# Altium integrated library National Semiconductor Audio.IntLib: 683 symbols (part 2 of 18)
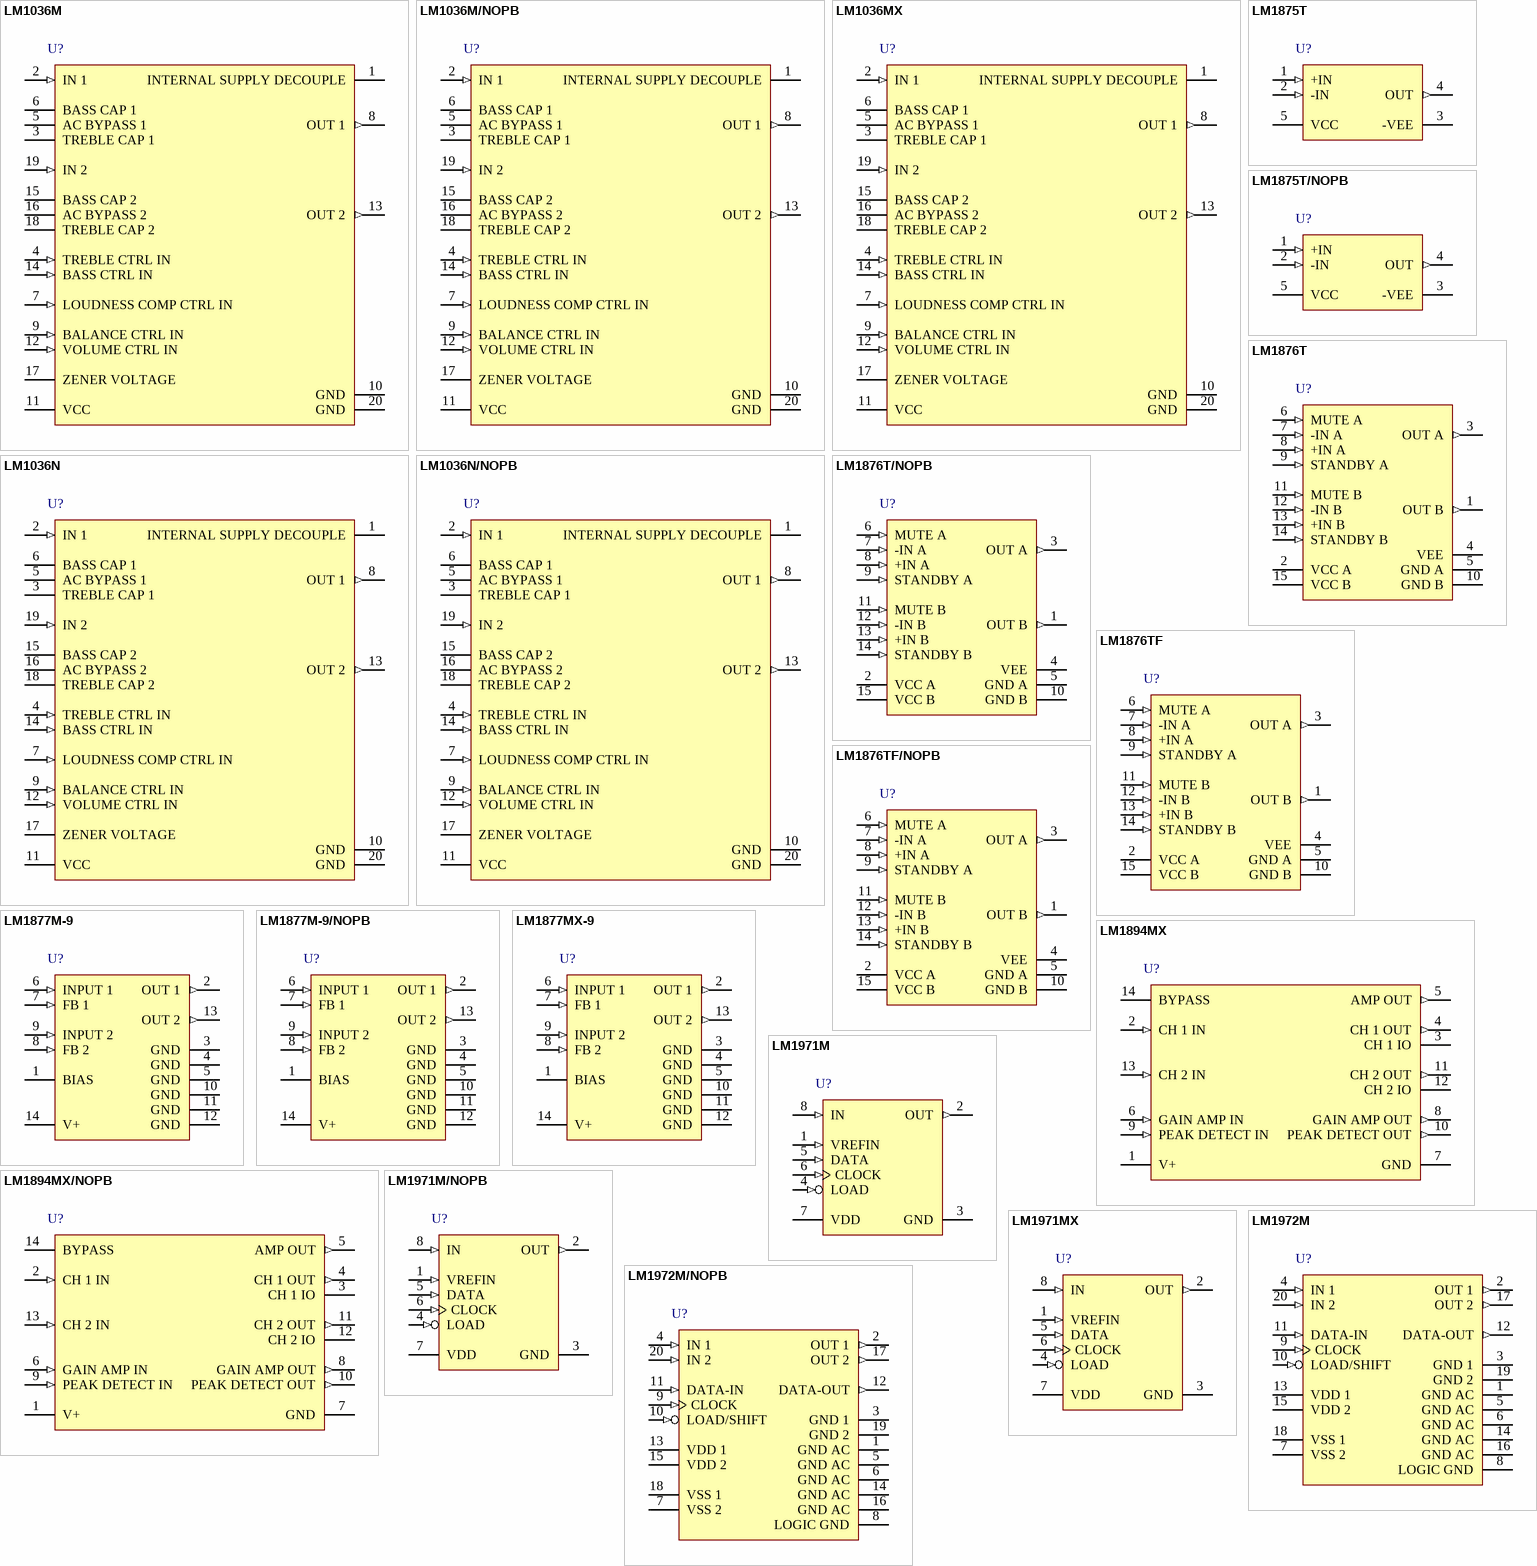
[diagram p28: symbols LM1036M to LM1972M/NOPB]

## LM1876TF/NOPB
designator U?
Overture Audio Power Amplifier Series Dual 20-Watt Audio Power Amplifier with Mute and Standby Modes, 15-pin Isolated TO220, Pb-Free; PartNumber: LM1876TF/NOPB; Manufacturer: National Semiconductor; PackageTopMarking: NSUZXYTTE#*LM1876TF; PowerWise: N; CompType: Audio IC; High-Reliability: Y; DatasheetVersion: Jul-2003; PackageVersion: revB, Feb-1994; PackageReference: TF15B; PackageDescription: TO-220, Molded, 15 Lead, Staggered, Isolated; RoHS: Y; PinCount: 15; ComponentLink1Description: Manufacturer URL; ComponentLink1URL: http://www.national.com/; ComponentLink2Description: LM1876 Datasheet; ComponentLink2URL: http://www.national.com/ds/LM/LM1876.pdf; ComponentLink3Description: LM1876 Web Page; ComponentLink3URL: http://www.national.com/pf/LM/LM1876.html; ComponentLink4Description: TF15B Package Page; ComponentLink4URL: http://www.national.com/packaging/folders/tf15b.html
footprint TF15B (TO, Thru-Hole, Vertical, Heatsink Mounted; 15 Bent Staggered Leads; Body 20x10.6x4.5mm, Pitch 1.27 mm)
pins: 1 OUT B (out), 2 VCC A (power), 3 OUT A (out), 4 VEE (power), 5 GND A (power), 6 MUTE A (in), 7 -IN A (in), 8 +IN A (in), 9 STANDBY A (in), 10 GND B (power), 11 MUTE B (in), 12 -IN B (in), 13 +IN B (in), 14 STANDBY B (in), 15 VCC B (power)

## LM1877M-9
designator U?
Dual Audio Power Amplifier, 14-pin Wide SOIC; PartNumber: LM1877M-9; Manufacturer: National Semiconductor; PackageTopMarking: NSUZXYTTE#*LM1877M*-9; PowerWise: N; CompType: Audio IC; High-Reliability: Y; DatasheetVersion: Feb-1995; PackageVersion: revD, Feb-1987; PackageReference: M14B; PackageDescription: Molded Package, S.O., .300in Wide, 14 Lead; RoHS: N; PinCount: 14; Code_JEDEC: MS-013-AF; Code_IPC: SOIC127P1030-14; ComponentLink1Description: Manufacturer URL; ComponentLink1URL: http://www.national.com/; ComponentLink2Description: LM1877 Datasheet; ComponentLink2URL: http://www.national.com/ds/LM/LM1877.pdf; ComponentLink3Description: LM1877 Web Page; ComponentLink3URL: http://www.national.com/pf/LM/LM1877.html; ComponentLink4Description: M14B Package Page; ComponentLink4URL: http://www.national.com/packaging/folders/m14b.html
footprint M14B_N (SOIC, 14-Leads, Body 9x7.5mm, Pitch 1.27mm, IPC Medium Density)
footprint M14B_L (SOIC, 14-Leads, Body 9x7.5mm, Pitch 1.27mm, IPC High Density)
footprint M14B_M (SOIC, 14-Leads, Body 9x7.5mm, Pitch 1.27mm, IPC Low Density)
pins: 1 BIAS, 2 OUT 1 (out), 3 GND (power), 4 GND (power), 5 GND (power), 6 INPUT 1 (in), 7 FB 1 (in), 8 FB 2 (in), 9 INPUT 2 (in), 10 GND (power), 11 GND (power), 12 GND (power), 13 OUT 2 (out), 14 V+ (power)

## LM1877M-9/NOPB
designator U?
Dual Audio Power Amplifier, 14-pin Wide SOIC, Pb-Free; PartNumber: LM1877M-9/NOPB; Manufacturer: National Semiconductor; PackageTopMarking: NSUZXYTTE#*LM1877M*-9; PowerWise: N; CompType: Audio IC; High-Reliability: Y; DatasheetVersion: Feb-1995; PackageVersion: revD, Feb-1987; PackageReference: M14B; PackageDescription: Molded Package, S.O., .300in Wide, 14 Lead; RoHS: Y; PinCount: 14; Code_JEDEC: MS-013-AF; Code_IPC: SOIC127P1030-14; ComponentLink1Description: Manufacturer URL; ComponentLink1URL: http://www.national.com/; ComponentLink2Description: LM1877 Datasheet; ComponentLink2URL: http://www.national.com/ds/LM/LM1877.pdf; ComponentLink3Description: LM1877 Web Page; ComponentLink3URL: http://www.national.com/pf/LM/LM1877.html; ComponentLink4Description: M14B Package Page; ComponentLink4URL: http://www.national.com/packaging/folders/m14b.html
footprint M14B_N (SOIC, 14-Leads, Body 9x7.5mm, Pitch 1.27mm, IPC Medium Density)
footprint M14B_L (SOIC, 14-Leads, Body 9x7.5mm, Pitch 1.27mm, IPC High Density)
footprint M14B_M (SOIC, 14-Leads, Body 9x7.5mm, Pitch 1.27mm, IPC Low Density)
pins: 1 BIAS, 2 OUT 1 (out), 3 GND (power), 4 GND (power), 5 GND (power), 6 INPUT 1 (in), 7 FB 1 (in), 8 FB 2 (in), 9 INPUT 2 (in), 10 GND (power), 11 GND (power), 12 GND (power), 13 OUT 2 (out), 14 V+ (power)

## LM1877MX-9
designator U?
Dual Audio Power Amplifier, 14-pin Wide SOIC; PartNumber: LM1877MX-9; Manufacturer: National Semiconductor; PackageTopMarking: NSUZXYTTE#*LM1877M*-9; PowerWise: N; CompType: Audio IC; High-Reliability: Y; DatasheetVersion: Feb-1995; PackageVersion: revD, Feb-1987; PackageReference: M14B; PackageDescription: Molded Package, S.O., .300in Wide, 14 Lead; RoHS: N; PinCount: 14; Code_JEDEC: MS-013-AF; Code_IPC: SOIC127P1030-14; ComponentLink1Description: Manufacturer URL; ComponentLink1URL: http://www.national.com/; ComponentLink2Description: LM1877 Datasheet; ComponentLink2URL: http://www.national.com/ds/LM/LM1877.pdf; ComponentLink3Description: LM1877 Web Page; ComponentLink3URL: http://www.national.com/pf/LM/LM1877.html; ComponentLink4Description: M14B Package Page; ComponentLink4URL: http://www.national.com/packaging/folders/m14b.html
footprint M14B_N (SOIC, 14-Leads, Body 9x7.5mm, Pitch 1.27mm, IPC Medium Density)
footprint M14B_L (SOIC, 14-Leads, Body 9x7.5mm, Pitch 1.27mm, IPC High Density)
footprint M14B_M (SOIC, 14-Leads, Body 9x7.5mm, Pitch 1.27mm, IPC Low Density)
pins: 1 BIAS, 2 OUT 1 (out), 3 GND (power), 4 GND (power), 5 GND (power), 6 INPUT 1 (in), 7 FB 1 (in), 8 FB 2 (in), 9 INPUT 2 (in), 10 GND (power), 11 GND (power), 12 GND (power), 13 OUT 2 (out), 14 V+ (power)

## LM1894MX
designator U?
Dynamic Noise Reduction System DNR, 14-pin Narrow SOIC; PartNumber: LM1894MX; Manufacturer: National Semiconductor; PackageTopMarking: NSUZXYTT*LM1894M; PowerWise: N; CompType: Audio IC; High-Reliability: Y; DatasheetVersion: Apr-2002; PackageVersion: revJ, Jan-1996; PackageReference: M14A; PackageDescription: Molded Package S.O., .150in Wide, 14 Lead; RoHS: N; PinCount: 14; Code_JEDEC: MS-012AB; Code_IPC: SOIC127P600-14; ComponentLink1Description: Manufacturer URL; ComponentLink1URL: http://www.national.com/; ComponentLink2Description: LM1894 Datasheet; ComponentLink2URL: http://www.national.com/ds/LM/LM1894.pdf; ComponentLink3Description: LM1894 Web Page; ComponentLink3URL: http://www.national.com/pf/LM/LM1894.html; ComponentLink4Description: M14A Package Page; ComponentLink4URL: http://www.national.com/packaging/folders/m14a.html
footprint M14A_N (SOIC, 14-Leads, Body 8.6x3.9mm, Pitch 1.27mm, IPC Medium Density)
footprint M14A_L (SOIC, 14-Leads, Body 8.6x3.9mm, Pitch 1.27mm, IPC High Density)
footprint M14A_M (SOIC, 14-Leads, Body 8.6x3.9mm, Pitch 1.27mm, IPC Low Density)
pins: 1 V+ (power), 2 CH 1 IN (in), 3 CH 1 IO, 4 CH 1 OUT (out), 5 AMP OUT (out), 6 GAIN AMP IN (in), 7 GND (power), 8 GAIN AMP OUT (out), 9 PEAK DETECT IN (in), 10 PEAK DETECT OUT (out), 11 CH 2 OUT (out), 12 CH 2 IO, 13 CH 2 IN (in), 14 BYPASS

## LM1894MX/NOPB
designator U?
Dynamic Noise Reduction System DNR, 14-pin Narrow SOIC, Pb-Free; PartNumber: LM1894MX/NOPB; Manufacturer: National Semiconductor; PackageTopMarking: NSUZXYTT*LM1894M; PowerWise: N; CompType: Audio IC; High-Reliability: Y; DatasheetVersion: Apr-2002; PackageVersion: revJ, Jan-1996; PackageReference: M14A; PackageDescription: Molded Package S.O., .150in Wide, 14 Lead; RoHS: Y; PinCount: 14; Code_JEDEC: MS-012AB; Code_IPC: SOIC127P600-14; ComponentLink1Description: Manufacturer URL; ComponentLink1URL: http://www.national.com/; ComponentLink2Description: LM1894 Datasheet; ComponentLink2URL: http://www.national.com/ds/LM/LM1894.pdf; ComponentLink3Description: LM1894 Web Page; ComponentLink3URL: http://www.national.com/pf/LM/LM1894.html; ComponentLink4Description: M14A Package Page; ComponentLink4URL: http://www.national.com/packaging/folders/m14a.html
footprint M14A_N (SOIC, 14-Leads, Body 8.6x3.9mm, Pitch 1.27mm, IPC Medium Density)
footprint M14A_L (SOIC, 14-Leads, Body 8.6x3.9mm, Pitch 1.27mm, IPC High Density)
footprint M14A_M (SOIC, 14-Leads, Body 8.6x3.9mm, Pitch 1.27mm, IPC Low Density)
pins: 1 V+ (power), 2 CH 1 IN (in), 3 CH 1 IO, 4 CH 1 OUT (out), 5 AMP OUT (out), 6 GAIN AMP IN (in), 7 GND (power), 8 GAIN AMP OUT (out), 9 PEAK DETECT IN (in), 10 PEAK DETECT OUT (out), 11 CH 2 OUT (out), 12 CH 2 IO, 13 CH 2 IN (in), 14 BYPASS

## LM1971M
designator U?
Digitally Controlled 62 dB Audio Attenuator with/Mute, 8-pin Narrow SOIC; PartNumber: LM1971M; Manufacturer: National Semiconductor; PackageTopMarking: NSZXTT*LM19*71M; PowerWise: N; CompType: Audio IC; High-Reliability: Y; DatasheetVersion: Sep-2002; PackageVersion: revM, May-2009; PackageReference: M08A; PackageDescription: SOIC Narrow, 4.9 x 3.9 x 1.45mm, 8 Lead, 1.27mm Pitch; RoHS: N; PinCount: 8; Code_JEDEC: MS-012-AA; Code_IPC: SOIC127P600-8; ComponentLink1Description: Manufacturer URL; ComponentLink1URL: http://www.national.com/; ComponentLink2Description: LM1971 Datasheet; ComponentLink2URL: http://www.national.com/ds/LM/LM1971.pdf; ComponentLink3Description: LM1971 Web Page; ComponentLink3URL: http://www.national.com/pf/LM/LM1971.html; ComponentLink4Description: M08A Package Page; ComponentLink4URL: http://www.national.com/packaging/folders/m08a.html
footprint M08A_N (SOIC, 8-Leads, Body 4.9x3.9mm, Pitch 1.27mm, IPC Medium Density)
footprint M08A_L (SOIC, 8-Leads, Body 4.9x3.9mm, Pitch 1.27mm, IPC High Density)
footprint M08A_M (SOIC, 8-Leads, Body 4.9x3.9mm, Pitch 1.27mm, IPC Low Density)
pins: 1 VREFIN (in), 2 OUT (out), 3 GND (power), 4 LOAD (in), 5 DATA (in), 6 CLOCK (in), 7 VDD (power), 8 IN (in)

## LM1971M/NOPB
designator U?
Digitally Controlled 62 dB Audio Attenuator with/Mute, 8-pin Narrow SOIC, Pb-Free; PartNumber: LM1971M/NOPB; Manufacturer: National Semiconductor; PackageTopMarking: NSZXTT*LM19*71M; PowerWise: N; CompType: Audio IC; High-Reliability: Y; DatasheetVersion: Sep-2002; PackageVersion: revM, May-2009; PackageReference: M08A; PackageDescription: SOIC Narrow, 4.9 x 3.9 x 1.45mm, 8 Lead, 1.27mm Pitch; RoHS: Y; PinCount: 8; Code_JEDEC: MS-012-AA; Code_IPC: SOIC127P600-8; ComponentLink1Description: Manufacturer URL; ComponentLink1URL: http://www.national.com/; ComponentLink2Description: LM1971 Datasheet; ComponentLink2URL: http://www.national.com/ds/LM/LM1971.pdf; ComponentLink3Description: LM1971 Web Page; ComponentLink3URL: http://www.national.com/pf/LM/LM1971.html; ComponentLink4Description: M08A Package Page; ComponentLink4URL: http://www.national.com/packaging/folders/m08a.html
footprint M08A_N (SOIC, 8-Leads, Body 4.9x3.9mm, Pitch 1.27mm, IPC Medium Density)
footprint M08A_L (SOIC, 8-Leads, Body 4.9x3.9mm, Pitch 1.27mm, IPC High Density)
footprint M08A_M (SOIC, 8-Leads, Body 4.9x3.9mm, Pitch 1.27mm, IPC Low Density)
pins: 1 VREFIN (in), 2 OUT (out), 3 GND (power), 4 LOAD (in), 5 DATA (in), 6 CLOCK (in), 7 VDD (power), 8 IN (in)

## LM1971MX
designator U?
Digitally Controlled 62 dB Audio Attenuator with/Mute, 8-pin Narrow SOIC; PartNumber: LM1971MX; Manufacturer: National Semiconductor; PackageTopMarking: NSZXTT*LM19*71M; PowerWise: N; CompType: Audio IC; High-Reliability: Y; DatasheetVersion: Sep-2002; PackageVersion: revM, May-2009; PackageReference: M08A; PackageDescription: SOIC Narrow, 4.9 x 3.9 x 1.45mm, 8 Lead, 1.27mm Pitch; RoHS: N; PinCount: 8; Code_JEDEC: MS-012-AA; Code_IPC: SOIC127P600-8; ComponentLink1Description: Manufacturer URL; ComponentLink1URL: http://www.national.com/; ComponentLink2Description: LM1971 Datasheet; ComponentLink2URL: http://www.national.com/ds/LM/LM1971.pdf; ComponentLink3Description: LM1971 Web Page; ComponentLink3URL: http://www.national.com/pf/LM/LM1971.html; ComponentLink4Description: M08A Package Page; ComponentLink4URL: http://www.national.com/packaging/folders/m08a.html
footprint M08A_N (SOIC, 8-Leads, Body 4.9x3.9mm, Pitch 1.27mm, IPC Medium Density)
footprint M08A_L (SOIC, 8-Leads, Body 4.9x3.9mm, Pitch 1.27mm, IPC High Density)
footprint M08A_M (SOIC, 8-Leads, Body 4.9x3.9mm, Pitch 1.27mm, IPC Low Density)
pins: 1 VREFIN (in), 2 OUT (out), 3 GND (power), 4 LOAD (in), 5 DATA (in), 6 CLOCK (in), 7 VDD (power), 8 IN (in)

## LM1972M
designator U?
Micro-Pot 2-Channel 78 dB Audio Attenuator with Mute, 20-pin Wide SOIC; PartNumber: LM1972M; Manufacturer: National Semiconductor; PackageTopMarking: NSUZXYTTE#*LM1972M; PowerWise: N; CompType: Audio IC; High-Reliability: Y; DatasheetVersion: Nov-2006; PackageVersion: revG, Jan-1996; PackageReference: M20B; PackageDescription: Molded Package, S0, .300in Wide, 20 Lead; RoHS: N; PinCount: 20; Code_JEDEC: MS-013-AC; Code_IPC: SOIC127P1030-20; ComponentLink1Description: Manufacturer URL; ComponentLink1URL: http://www.national.com/; ComponentLink2Description: LM1972 Datasheet; ComponentLink2URL: http://www.national.com/ds/LM/LM1972.pdf; ComponentLink3Description: LM1972 Web Page; ComponentLink3URL: http://www.national.com/pf/LM/LM1972.html; ComponentLink4Description: M20B Package Page; ComponentLink4URL: http://www.national.com/packaging/folders/m20b.html
footprint M20B_N (SOIC, 20-Leads, Body 12.8x7.5mm, Pitch 1.27mm, IPC Medium Density)
footprint M20B_L (SOIC, 20-Leads, Body 12.8x7.5mm, Pitch 1.27mm, IPC High Density)
footprint M20B_M (SOIC, 20-Leads, Body 12.8x7.5mm, Pitch 1.27mm, IPC Low Density)
pins: 1 GND AC (power), 2 OUT 1 (out), 3 GND 1 (power), 4 IN 1 (in), 5 GND AC (power), 6 GND AC (power), 7 VSS 2 (power), 8 LOGIC GND (power), 9 CLOCK (in), 10 LOAD/SHIFT (in), 11 DATA-IN (in), 12 DATA-OUT (out), 13 VDD 1 (power), 14 GND AC (power), 15 VDD 2 (power), 16 GND AC (power), 17 OUT 2 (out), 18 VSS 1 (power), 19 GND 2 (power), 20 IN 2 (in)

## LM1972M/NOPB
designator U?
Micro-Pot 2-Channel 78 dB Audio Attenuator with Mute, 20-pin Wide SOIC, Pb-Free; PartNumber: LM1972M/NOPB; Manufacturer: National Semiconductor; PackageTopMarking: NSUZXYTTE#*LM1972M; PowerWise: N; CompType: Audio IC; High-Reliability: Y; DatasheetVersion: Nov-2006; PackageVersion: revG, Jan-1996; PackageReference: M20B; PackageDescription: Molded Package, S0, .300in Wide, 20 Lead; RoHS: Y; PinCount: 20; Code_JEDEC: MS-013-AC; Code_IPC: SOIC127P1030-20; ComponentLink1Description: Manufacturer URL; ComponentLink1URL: http://www.national.com/; ComponentLink2Description: LM1972 Datasheet; ComponentLink2URL: http://www.national.com/ds/LM/LM1972.pdf; ComponentLink3Description: LM1972 Web Page; ComponentLink3URL: http://www.national.com/pf/LM/LM1972.html; ComponentLink4Description: M20B Package Page; ComponentLink4URL: http://www.national.com/packaging/folders/m20b.html
footprint M20B_N (SOIC, 20-Leads, Body 12.8x7.5mm, Pitch 1.27mm, IPC Medium Density)
footprint M20B_L (SOIC, 20-Leads, Body 12.8x7.5mm, Pitch 1.27mm, IPC High Density)
footprint M20B_M (SOIC, 20-Leads, Body 12.8x7.5mm, Pitch 1.27mm, IPC Low Density)
pins: 1 GND AC (power), 2 OUT 1 (out), 3 GND 1 (power), 4 IN 1 (in), 5 GND AC (power), 6 GND AC (power), 7 VSS 2 (power), 8 LOGIC GND (power), 9 CLOCK (in), 10 LOAD/SHIFT (in), 11 DATA-IN (in), 12 DATA-OUT (out), 13 VDD 1 (power), 14 GND AC (power), 15 VDD 2 (power), 16 GND AC (power), 17 OUT 2 (out), 18 VSS 1 (power), 19 GND 2 (power), 20 IN 2 (in)

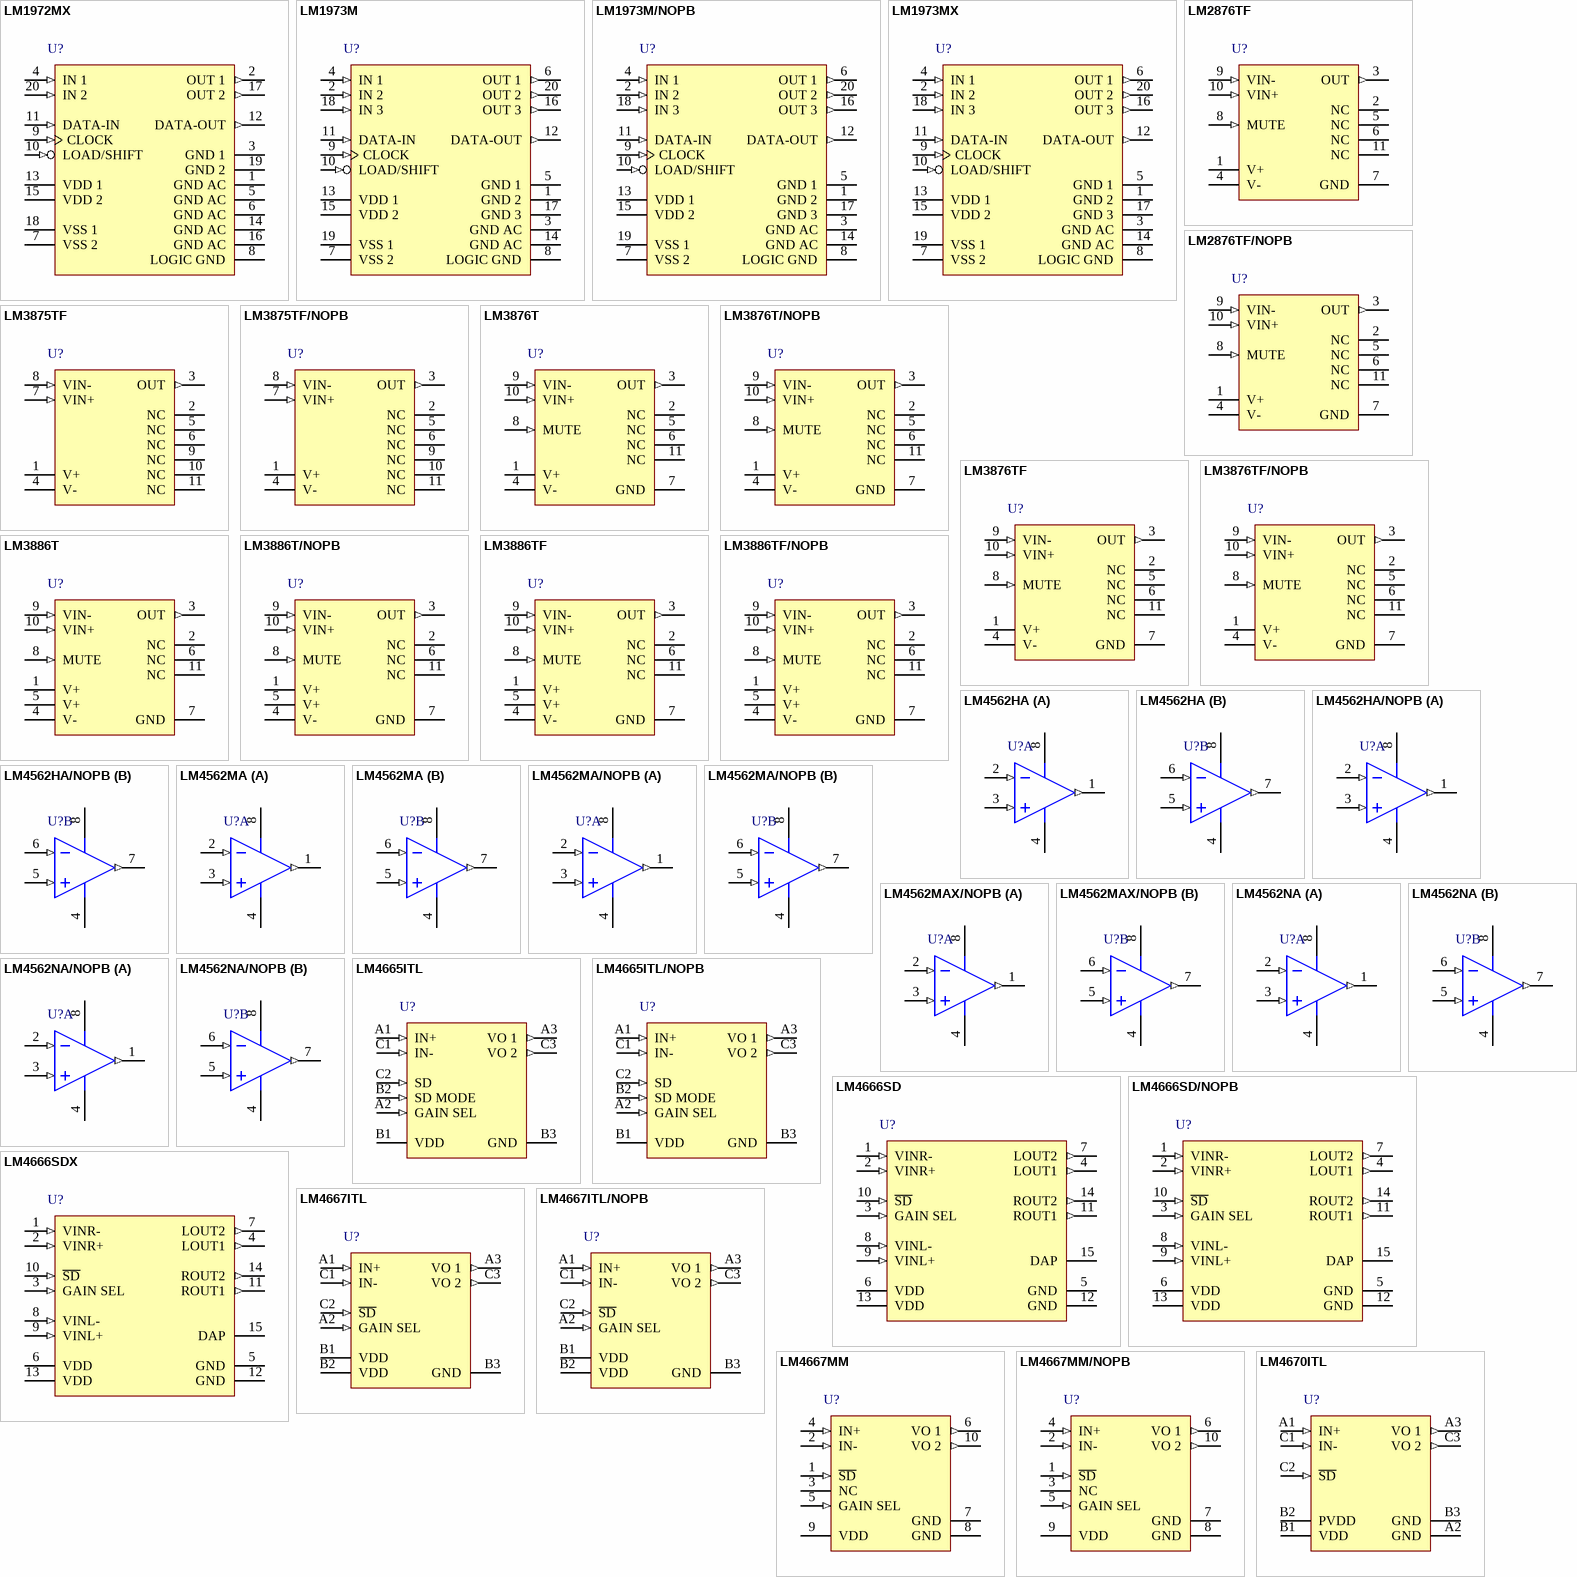
[diagram p2: symbols LM1972MX to LM4670ITL]

## LM1972MX
designator U?
Micro-Pot 2-Channel 78 dB Audio Attenuator with Mute, 20-pin Wide SOIC; PartNumber: LM1972MX; Manufacturer: National Semiconductor; PackageTopMarking: NSUZXYTTE#*LM1972M; PowerWise: N; CompType: Audio IC; High-Reliability: Y; DatasheetVersion: Nov-2006; PackageVersion: revG, Jan-1996; PackageReference: M20B; PackageDescription: Molded Package, S0, .300in Wide, 20 Lead; RoHS: N; PinCount: 20; Code_JEDEC: MS-013-AC; Code_IPC: SOIC127P1030-20; ComponentLink1Description: Manufacturer URL; ComponentLink1URL: http://www.national.com/; ComponentLink2Description: LM1972 Datasheet; ComponentLink2URL: http://www.national.com/ds/LM/LM1972.pdf; ComponentLink3Description: LM1972 Web Page; ComponentLink3URL: http://www.national.com/pf/LM/LM1972.html; ComponentLink4Description: M20B Package Page; ComponentLink4URL: http://www.national.com/packaging/folders/m20b.html
footprint M20B_N (SOIC, 20-Leads, Body 12.8x7.5mm, Pitch 1.27mm, IPC Medium Density)
footprint M20B_L (SOIC, 20-Leads, Body 12.8x7.5mm, Pitch 1.27mm, IPC High Density)
footprint M20B_M (SOIC, 20-Leads, Body 12.8x7.5mm, Pitch 1.27mm, IPC Low Density)
pins: 1 GND AC (power), 2 OUT 1 (out), 3 GND 1 (power), 4 IN 1 (in), 5 GND AC (power), 6 GND AC (power), 7 VSS 2 (power), 8 LOGIC GND (power), 9 CLOCK (in), 10 LOAD/SHIFT (in), 11 DATA-IN (in), 12 DATA-OUT (out), 13 VDD 1 (power), 14 GND AC (power), 15 VDD 2 (power), 16 GND AC (power), 17 OUT 2 (out), 18 VSS 1 (power), 19 GND 2 (power), 20 IN 2 (in)

## LM1973M
designator U?
Micro-Pot 3-Channel 76 dB Audio Attenuator with Mute, 20-pin Wide SOIC; PartNumber: LM1973M; Manufacturer: National Semiconductor; PackageTopMarking: NSUZXYTTE#*LM1973M; PowerWise: N; CompType: Audio IC; High-Reliability: Y; DatasheetVersion: Dec-1994; PackageVersion: revG, Jan-1996; PackageReference: M20B; PackageDescription: Molded Package, S0, .300in Wide, 20 Lead; RoHS: N; PinCount: 20; Code_JEDEC: MS-013-AC; Code_IPC: SOIC127P1030-20; ComponentLink1Description: Manufacturer URL; ComponentLink1URL: http://www.national.com/; ComponentLink2Description: LM1973 Datasheet; ComponentLink2URL: http://www.national.com/ds/LM/LM1973.pdf; ComponentLink3Description: LM1973 Web Page; ComponentLink3URL: http://www.national.com/pf/LM/LM1973.html; ComponentLink4Description: M20B Package Page; ComponentLink4URL: http://www.national.com/packaging/folders/m20b.html
footprint M20B_N (SOIC, 20-Leads, Body 12.8x7.5mm, Pitch 1.27mm, IPC Medium Density)
footprint M20B_L (SOIC, 20-Leads, Body 12.8x7.5mm, Pitch 1.27mm, IPC High Density)
footprint M20B_M (SOIC, 20-Leads, Body 12.8x7.5mm, Pitch 1.27mm, IPC Low Density)
pins: 1 GND 2 (power), 2 IN 2 (in), 3 GND AC (power), 4 IN 1 (in), 5 GND 1 (power), 6 OUT 1 (out), 7 VSS 2 (power), 8 LOGIC GND (power), 9 CLOCK (in), 10 LOAD/SHIFT (in), 11 DATA-IN (in), 12 DATA-OUT (out), 13 VDD 1 (power), 14 GND AC (power), 15 VDD 2 (power), 16 OUT 3 (out), 17 GND 3 (power), 18 IN 3 (in), 19 VSS 1 (power), 20 OUT 2 (out)

## LM1973M/NOPB
designator U?
Micro-Pot 3-Channel 76 dB Audio Attenuator with Mute, 20-pin Wide SOIC, Pb-Free; PartNumber: LM1973M/NOPB; Manufacturer: National Semiconductor; PackageTopMarking: NSUZXYTTE#*LM1973M; PowerWise: N; CompType: Audio IC; High-Reliability: Y; DatasheetVersion: Dec-1994; PackageVersion: revG, Jan-1996; PackageReference: M20B; PackageDescription: Molded Package, S0, .300in Wide, 20 Lead; RoHS: Y; PinCount: 20; Code_JEDEC: MS-013-AC; Code_IPC: SOIC127P1030-20; ComponentLink1Description: Manufacturer URL; ComponentLink1URL: http://www.national.com/; ComponentLink2Description: LM1973 Datasheet; ComponentLink2URL: http://www.national.com/ds/LM/LM1973.pdf; ComponentLink3Description: LM1973 Web Page; ComponentLink3URL: http://www.national.com/pf/LM/LM1973.html; ComponentLink4Description: M20B Package Page; ComponentLink4URL: http://www.national.com/packaging/folders/m20b.html
footprint M20B_N (SOIC, 20-Leads, Body 12.8x7.5mm, Pitch 1.27mm, IPC Medium Density)
footprint M20B_L (SOIC, 20-Leads, Body 12.8x7.5mm, Pitch 1.27mm, IPC High Density)
footprint M20B_M (SOIC, 20-Leads, Body 12.8x7.5mm, Pitch 1.27mm, IPC Low Density)
pins: 1 GND 2 (power), 2 IN 2 (in), 3 GND AC (power), 4 IN 1 (in), 5 GND 1 (power), 6 OUT 1 (out), 7 VSS 2 (power), 8 LOGIC GND (power), 9 CLOCK (in), 10 LOAD/SHIFT (in), 11 DATA-IN (in), 12 DATA-OUT (out), 13 VDD 1 (power), 14 GND AC (power), 15 VDD 2 (power), 16 OUT 3 (out), 17 GND 3 (power), 18 IN 3 (in), 19 VSS 1 (power), 20 OUT 2 (out)

## LM1973MX
designator U?
Micro-Pot 3-Channel 76 dB Audio Attenuator with Mute, 20-pin Wide SOIC; PartNumber: LM1973MX; Manufacturer: National Semiconductor; PackageTopMarking: NSUZXYTTE#*LM1973M; PowerWise: N; CompType: Audio IC; High-Reliability: Y; DatasheetVersion: Dec-1994; PackageVersion: revG, Jan-1996; PackageReference: M20B; PackageDescription: Molded Package, S0, .300in Wide, 20 Lead; RoHS: N; PinCount: 20; Code_JEDEC: MS-013-AC; Code_IPC: SOIC127P1030-20; ComponentLink1Description: Manufacturer URL; ComponentLink1URL: http://www.national.com/; ComponentLink2Description: LM1973 Datasheet; ComponentLink2URL: http://www.national.com/ds/LM/LM1973.pdf; ComponentLink3Description: LM1973 Web Page; ComponentLink3URL: http://www.national.com/pf/LM/LM1973.html; ComponentLink4Description: M20B Package Page; ComponentLink4URL: http://www.national.com/packaging/folders/m20b.html
footprint M20B_N (SOIC, 20-Leads, Body 12.8x7.5mm, Pitch 1.27mm, IPC Medium Density)
footprint M20B_L (SOIC, 20-Leads, Body 12.8x7.5mm, Pitch 1.27mm, IPC High Density)
footprint M20B_M (SOIC, 20-Leads, Body 12.8x7.5mm, Pitch 1.27mm, IPC Low Density)
pins: 1 GND 2 (power), 2 IN 2 (in), 3 GND AC (power), 4 IN 1 (in), 5 GND 1 (power), 6 OUT 1 (out), 7 VSS 2 (power), 8 LOGIC GND (power), 9 CLOCK (in), 10 LOAD/SHIFT (in), 11 DATA-IN (in), 12 DATA-OUT (out), 13 VDD 1 (power), 14 GND AC (power), 15 VDD 2 (power), 16 OUT 3 (out), 17 GND 3 (power), 18 IN 3 (in), 19 VSS 1 (power), 20 OUT 2 (out)

## LM2876TF
designator U?
High-Performance 40 Watt Audio Power Amplifier w/Mute, 11-pin Isolated TO220; PartNumber: LM2876TF; Manufacturer: National Semiconductor; PackageTopMarking: NSUZXYTTE#*LM2876TF; PowerWise: N; CompType: Audio IC; High-Reliability: Y; DatasheetVersion: Aug-2000; PackageVersion: revD, Apr-2003; PackageReference: TF11B; PackageDescription: TO-220, Molded, .788 x .771 x .177in Body, 11 Bent Staggered Leads, .067in Pitch; RoHS: N; PinCount: 11; ComponentLink1Description: Manufacturer URL; ComponentLink1URL: http://www.national.com/; ComponentLink2Description: LM2876 Datasheet; ComponentLink2URL: http://www.national.com/ds/LM/LM2876.pdf; ComponentLink3Description: LM2876 Web Page; ComponentLink3URL: http://www.national.com/pf/LM/LM2876.html; ComponentLink4Description: TF11B Package Page; ComponentLink4URL: http://www.national.com/packaging/folders/tf11b.html
footprint TF11B (TO, Thru-Hole, Vertical, Heatsink Mounted; 11 Bent Staggered Leads; Body 20x10.6x4.5mm, Pitch 1.7 mm)
pins: 1 V+ (power), 2 NC, 3 OUT (out), 4 V- (power), 5 NC "NC. Connect to V+ for compatibillity with LM3886", 6 NC, 7 GND (power), 8 MUTE (in), 9 VIN- (in), 10 VIN+ (in), 11 NC

## LM2876TF/NOPB
designator U?
High-Performance 40 Watt Audio Power Amplifier w/Mute, 11-pin Isolated TO220, Pb-Free; PartNumber: LM2876TF/NOPB; Manufacturer: National Semiconductor; PackageTopMarking: NSUZXYTTE#*LM2876TF; PowerWise: N; CompType: Audio IC; High-Reliability: Y; DatasheetVersion: Aug-2000; PackageVersion: revD, Apr-2003; PackageReference: TF11B; PackageDescription: TO-220, Molded, .788 x .771 x .177in Body, 11 Bent Staggered Leads, .067in Pitch; RoHS: Y; PinCount: 11; ComponentLink1Description: Manufacturer URL; ComponentLink1URL: http://www.national.com/; ComponentLink2Description: LM2876 Datasheet; ComponentLink2URL: http://www.national.com/ds/LM/LM2876.pdf; ComponentLink3Description: LM2876 Web Page; ComponentLink3URL: http://www.national.com/pf/LM/LM2876.html; ComponentLink4Description: TF11B Package Page; ComponentLink4URL: http://www.national.com/packaging/folders/tf11b.html
footprint TF11B (TO, Thru-Hole, Vertical, Heatsink Mounted; 11 Bent Staggered Leads; Body 20x10.6x4.5mm, Pitch 1.7 mm)
pins: 1 V+ (power), 2 NC, 3 OUT (out), 4 V- (power), 5 NC "NC. Connect to V+ for compatibillity with LM3886", 6 NC, 7 GND (power), 8 MUTE (in), 9 VIN- (in), 10 VIN+ (in), 11 NC

## LM3875TF
designator U?
High-Performance 56W Audio Power Amplifier, 11-pin Isolated TO220; PartNumber: LM3875TF; Manufacturer: National Semiconductor; PackageTopMarking: NSUZXYTTE#*LM3875TF; PowerWise: N; CompType: Audio IC; High-Reliability: Y; DatasheetVersion: Aug-2000; PackageVersion: revD, Apr-2003; PackageReference: TF11B; PackageDescription: TO-220, Molded, .788 x .771 x .177in Body, 11 Bent Staggered Leads, .067in Pitch; RoHS: N; PinCount: 11; ComponentLink1Description: Manufacturer URL; ComponentLink1URL: http://www.national.com/; ComponentLink2Description: LM3875 Datasheet; ComponentLink2URL: http://www.national.com/ds/LM/LM3875.pdf; ComponentLink3Description: LM3875 Web Page; ComponentLink3URL: http://www.national.com/pf/LM/LM3875.html; ComponentLink4Description: TF11B Package Page; ComponentLink4URL: http://www.national.com/packaging/folders/tf11b.html
footprint TF11B (TO, Thru-Hole, Vertical, Heatsink Mounted; 11 Bent Staggered Leads; Body 20x10.6x4.5mm, Pitch 1.7 mm)
pins: 1 V+ (power), 2 NC, 3 OUT (out), 4 V- (power), 5 NC, 6 NC, 7 VIN+ (in), 8 VIN- (in), 9 NC, 10 NC, 11 NC

## LM3875TF/NOPB
designator U?
High-Performance 56W Audio Power Amplifier, 11-pin Isolated TO220, Pb-Free; PartNumber: LM3875TF/NOPB; Manufacturer: National Semiconductor; PackageTopMarking: NSUZXYTTE#*LM3875TF; PowerWise: N; CompType: Audio IC; High-Reliability: Y; DatasheetVersion: Aug-2000; PackageVersion: revD, Apr-2003; PackageReference: TF11B; PackageDescription: TO-220, Molded, .788 x .771 x .177in Body, 11 Bent Staggered Leads, .067in Pitch; RoHS: Y; PinCount: 11; ComponentLink1Description: Manufacturer URL; ComponentLink1URL: http://www.national.com/; ComponentLink2Description: LM3875 Datasheet; ComponentLink2URL: http://www.national.com/ds/LM/LM3875.pdf; ComponentLink3Description: LM3875 Web Page; ComponentLink3URL: http://www.national.com/pf/LM/LM3875.html; ComponentLink4Description: TF11B Package Page; ComponentLink4URL: http://www.national.com/packaging/folders/tf11b.html
footprint TF11B (TO, Thru-Hole, Vertical, Heatsink Mounted; 11 Bent Staggered Leads; Body 20x10.6x4.5mm, Pitch 1.7 mm)
pins: 1 V+ (power), 2 NC, 3 OUT (out), 4 V- (power), 5 NC, 6 NC, 7 VIN+ (in), 8 VIN- (in), 9 NC, 10 NC, 11 NC

## LM3876T
designator U?
High-Performance 56W Audio Power Amplifier with Mute, 11-pin TO-220; PartNumber: LM3876T; Manufacturer: National Semiconductor; PackageTopMarking: NSUZXYTTE#*LM3876T; PowerWise: N; CompType: Audio IC; High-Reliability: Y; DatasheetVersion: Aug-2000; PackageVersion: revA, Mar-1987; PackageReference: TA11B; PackageDescription: TO-220, Molded, .788 x .421in Body, 11 Lead, .067in Pitch; RoHS: N; PinCount: 11; ComponentLink1Description: Manufacturer URL; ComponentLink1URL: http://www.national.com/; ComponentLink2Description: LM3876 Datasheet; ComponentLink2URL: http://www.national.com/ds/LM/LM3876.pdf; ComponentLink3Description: LM3876 Web Page; ComponentLink3URL: http://www.national.com/pf/LM/LM3876.html; ComponentLink4Description: TA11B Package Page; ComponentLink4URL: http://www.national.com/packaging/folders/ta11b.html
footprint TA11B (TO, Thru-Hole, Vertical, Heatsink Mounted; 11 Bent Staggered Leads; Body 20x10.7x4.5mm, Pitch 1.7 mm)
pins: 1 V+ (power), 2 NC, 3 OUT (out), 4 V- (power), 5 NC, 6 NC, 7 GND (power), 8 MUTE (in), 9 VIN- (in), 10 VIN+ (in), 11 NC

## LM3876T/NOPB
designator U?
High-Performance 56W Audio Power Amplifier with Mute, 11-pin TO-220, Pb-Free; PartNumber: LM3876T/NOPB; Manufacturer: National Semiconductor; PackageTopMarking: NSUZXYTTE#*LM3876T; PowerWise: N; CompType: Audio IC; High-Reliability: Y; DatasheetVersion: Aug-2000; PackageVersion: revA, Mar-1987; PackageReference: TA11B; PackageDescription: TO-220, Molded, .788 x .421in Body, 11 Lead, .067in Pitch; RoHS: Y; PinCount: 11; ComponentLink1Description: Manufacturer URL; ComponentLink1URL: http://www.national.com/; ComponentLink2Description: LM3876 Datasheet; ComponentLink2URL: http://www.national.com/ds/LM/LM3876.pdf; ComponentLink3Description: LM3876 Web Page; ComponentLink3URL: http://www.national.com/pf/LM/LM3876.html; ComponentLink4Description: TA11B Package Page; ComponentLink4URL: http://www.national.com/packaging/folders/ta11b.html
footprint TA11B (TO, Thru-Hole, Vertical, Heatsink Mounted; 11 Bent Staggered Leads; Body 20x10.7x4.5mm, Pitch 1.7 mm)
pins: 1 V+ (power), 2 NC, 3 OUT (out), 4 V- (power), 5 NC, 6 NC, 7 GND (power), 8 MUTE (in), 9 VIN- (in), 10 VIN+ (in), 11 NC

## LM3876TF
designator U?
High-Performance 56W Audio Power Amplifier with Mute, 11-pin Isolated TO220; PartNumber: LM3876TF; Manufacturer: National Semiconductor; PackageTopMarking: NSUZXYTTE#*LM3876TF; PowerWise: N; CompType: Audio IC; High-Reliability: Y; DatasheetVersion: Aug-2000; PackageVersion: revD, Apr-2003; PackageReference: TF11B; PackageDescription: TO-220, Molded, .788 x .771 x .177in Body, 11 Bent Staggered Leads, .067in Pitch; RoHS: N; PinCount: 11; ComponentLink1Description: Manufacturer URL; ComponentLink1URL: http://www.national.com/; ComponentLink2Description: LM3876 Datasheet; ComponentLink2URL: http://www.national.com/ds/LM/LM3876.pdf; ComponentLink3Description: LM3876 Web Page; ComponentLink3URL: http://www.national.com/pf/LM/LM3876.html; ComponentLink4Description: TF11B Package Page; ComponentLink4URL: http://www.national.com/packaging/folders/tf11b.html
footprint TF11B (TO, Thru-Hole, Vertical, Heatsink Mounted; 11 Bent Staggered Leads; Body 20x10.6x4.5mm, Pitch 1.7 mm)
pins: 1 V+ (power), 2 NC, 3 OUT (out), 4 V- (power), 5 NC, 6 NC, 7 GND (power), 8 MUTE (in), 9 VIN- (in), 10 VIN+ (in), 11 NC

## LM3876TF/NOPB
designator U?
High-Performance 56W Audio Power Amplifier with Mute, 11-pin Isolated TO220, Pb-Free; PartNumber: LM3876TF/NOPB; Manufacturer: National Semiconductor; PackageTopMarking: NSUZXYTTE#*LM3876TF; PowerWise: N; CompType: Audio IC; High-Reliability: Y; DatasheetVersion: Aug-2000; PackageVersion: revD, Apr-2003; PackageReference: TF11B; PackageDescription: TO-220, Molded, .788 x .771 x .177in Body, 11 Bent Staggered Leads, .067in Pitch; RoHS: Y; PinCount: 11; ComponentLink1Description: Manufacturer URL; ComponentLink1URL: http://www.national.com/; ComponentLink2Description: LM3876 Datasheet; ComponentLink2URL: http://www.national.com/ds/LM/LM3876.pdf; ComponentLink3Description: LM3876 Web Page; ComponentLink3URL: http://www.national.com/pf/LM/LM3876.html; ComponentLink4Description: TF11B Package Page; ComponentLink4URL: http://www.national.com/packaging/folders/tf11b.html
footprint TF11B (TO, Thru-Hole, Vertical, Heatsink Mounted; 11 Bent Staggered Leads; Body 20x10.6x4.5mm, Pitch 1.7 mm)
pins: 1 V+ (power), 2 NC, 3 OUT (out), 4 V- (power), 5 NC, 6 NC, 7 GND (power), 8 MUTE (in), 9 VIN- (in), 10 VIN+ (in), 11 NC

## LM3886T
designator U?
High-Performance 68W Audio Power Amplifier with Mute, 11-pin TO-220; PartNumber: LM3886T; Manufacturer: National Semiconductor; PackageTopMarking: NSUZXYTTE#*LM3886T; PowerWise: N; CompType: Audio IC; High-Reliability: Y; DatasheetVersion: Oct-2003; PackageVersion: revA, Mar-1987; PackageReference: TA11B; PackageDescription: TO-220, Molded, .788 x .421in Body, 11 Lead, .067in Pitch; RoHS: N; PinCount: 11; ComponentLink1Description: Manufacturer URL; ComponentLink1URL: http://www.national.com/; ComponentLink2Description: LM3886 Datasheet; ComponentLink2URL: http://www.national.com/ds/LM/LM3886.pdf; ComponentLink3Description: LM3886 Web Page; ComponentLink3URL: http://www.national.com/pf/LM/LM3886.html; ComponentLink4Description: TA11B Package Page; ComponentLink4URL: http://www.national.com/packaging/folders/ta11b.html
footprint TA11B (TO, Thru-Hole, Vertical, Heatsink Mounted; 11 Bent Staggered Leads; Body 20x10.7x4.5mm, Pitch 1.7 mm)
pins: 1 V+ (power), 2 NC, 3 OUT (out), 4 V- (power), 5 V+ (power), 6 NC, 7 GND (power), 8 MUTE (in), 9 VIN- (in), 10 VIN+ (in), 11 NC

## LM3886T/NOPB
designator U?
High-Performance 68W Audio Power Amplifier with Mute, 11-pin TO-220, Pb-Free; PartNumber: LM3886T/NOPB; Manufacturer: National Semiconductor; PackageTopMarking: NSUZXYTTE#*LM3886T; PowerWise: N; CompType: Audio IC; High-Reliability: Y; DatasheetVersion: Oct-2003; PackageVersion: revA, Mar-1987; PackageReference: TA11B; PackageDescription: TO-220, Molded, .788 x .421in Body, 11 Lead, .067in Pitch; RoHS: Y; PinCount: 11; ComponentLink1Description: Manufacturer URL; ComponentLink1URL: http://www.national.com/; ComponentLink2Description: LM3886 Datasheet; ComponentLink2URL: http://www.national.com/ds/LM/LM3886.pdf; ComponentLink3Description: LM3886 Web Page; ComponentLink3URL: http://www.national.com/pf/LM/LM3886.html; ComponentLink4Description: TA11B Package Page; ComponentLink4URL: http://www.national.com/packaging/folders/ta11b.html
footprint TA11B (TO, Thru-Hole, Vertical, Heatsink Mounted; 11 Bent Staggered Leads; Body 20x10.7x4.5mm, Pitch 1.7 mm)
pins: 1 V+ (power), 2 NC, 3 OUT (out), 4 V- (power), 5 V+ (power), 6 NC, 7 GND (power), 8 MUTE (in), 9 VIN- (in), 10 VIN+ (in), 11 NC

## LM3886TF
designator U?
High-Performance 68W Audio Power Amplifier with Mute, 11-pin Isolated TO220; PartNumber: LM3886TF; Manufacturer: National Semiconductor; PackageTopMarking: NSUZXYTTE#*LM3886TF; PowerWise: N; CompType: Audio IC; High-Reliability: Y; DatasheetVersion: Oct-2003; PackageVersion: revD, Apr-2003; PackageReference: TF11B; PackageDescription: TO-220, Molded, .788 x .771 x .177in Body, 11 Bent Staggered Leads, .067in Pitch; RoHS: N; PinCount: 11; ComponentLink1Description: Manufacturer URL; ComponentLink1URL: http://www.national.com/; ComponentLink2Description: LM3886 Datasheet; ComponentLink2URL: http://www.national.com/ds/LM/LM3886.pdf; ComponentLink3Description: LM3886 Web Page; ComponentLink3URL: http://www.national.com/pf/LM/LM3886.html; ComponentLink4Description: TF11B Package Page; ComponentLink4URL: http://www.national.com/packaging/folders/tf11b.html
footprint TF11B (TO, Thru-Hole, Vertical, Heatsink Mounted; 11 Bent Staggered Leads; Body 20x10.6x4.5mm, Pitch 1.7 mm)
pins: 1 V+ (power), 2 NC, 3 OUT (out), 4 V- (power), 5 V+ (power), 6 NC, 7 GND (power), 8 MUTE (in), 9 VIN- (in), 10 VIN+ (in), 11 NC

## LM3886TF/NOPB
designator U?
High-Performance 68W Audio Power Amplifier with Mute, 11-pin Isolated TO220, Pb-Free; PartNumber: LM3886TF/NOPB; Manufacturer: National Semiconductor; PackageTopMarking: NSUZXYTTE#*LM3886TF; PowerWise: N; CompType: Audio IC; High-Reliability: Y; DatasheetVersion: Oct-2003; PackageVersion: revD, Apr-2003; PackageReference: TF11B; PackageDescription: TO-220, Molded, .788 x .771 x .177in Body, 11 Bent Staggered Leads, .067in Pitch; RoHS: Y; PinCount: 11; ComponentLink1Description: Manufacturer URL; ComponentLink1URL: http://www.national.com/; ComponentLink2Description: LM3886 Datasheet; ComponentLink2URL: http://www.national.com/ds/LM/LM3886.pdf; ComponentLink3Description: LM3886 Web Page; ComponentLink3URL: http://www.national.com/pf/LM/LM3886.html; ComponentLink4Description: TF11B Package Page; ComponentLink4URL: http://www.national.com/packaging/folders/tf11b.html
footprint TF11B (TO, Thru-Hole, Vertical, Heatsink Mounted; 11 Bent Staggered Leads; Body 20x10.6x4.5mm, Pitch 1.7 mm)
pins: 1 V+ (power), 2 NC, 3 OUT (out), 4 V- (power), 5 V+ (power), 6 NC, 7 GND (power), 8 MUTE (in), 9 VIN- (in), 10 VIN+ (in), 11 NC

## LM4562HA
designator U?
Dual High Performance, High Fidelity Audio Operational Amplifier, 8-pin TO-99; PartNumber: LM4562HA; Manufacturer: National Semiconductor; PackageTopMarking: NSZXYTTE# LM4562HA; PowerWise: Y; CompType: Audio IC; DatasheetVersion: Jan-2010; PackageVersion: revF, Jun-1995; PackageReference: H08C; PackageDescription: Metal Can, TO-99, 8 Lead, .200 Dia., P.C.; RoHS: Y; PinCount: 8; High-Reliability: Y; Code_JEDEC: TO-99; ComponentLink1Description: Manufacturer URL; ComponentLink1URL: http://www.national.com/; ComponentLink2Description: LM4562 Datasheet; ComponentLink2URL: http://www.national.com/ds/LM/LM4562.pdf; ComponentLink3Description: LM4562 Web Page; ComponentLink3URL: http://www.national.com/pf/LM/LM4562.html; ComponentLink4Description: H08C Package Page; ComponentLink4URL: http://www.national.com/packaging/folders/h08c.html
footprint H08C (Can; 8 Leads; Pin Circle Dia. 5.08 mm; Lead Dia. 0.48 mm (max))
pins on every part: 4 V- (power), 8 V+ (power)
part A pins: 1 OUT A (out), 2 IN A (in), 3 IN A (in)
part B pins: 5 IN B (in), 6 IN B (in), 7 OUT B (out)

## LM4562HA/NOPB
designator U?
Dual High Performance, High Fidelity Audio Operational Amplifier, 8-pin TO-99, Pb-Free; PartNumber: LM4562HA/NOPB; Manufacturer: National Semiconductor; PackageTopMarking: NSZXYTTE# LM4562HA; PowerWise: Y; CompType: Audio IC; DatasheetVersion: Jan-2010; PackageVersion: revF, Jun-1995; PackageReference: H08C; PackageDescription: Metal Can, TO-99, 8 Lead, .200 Dia., P.C.; RoHS: Y; PinCount: 8; High-Reliability: Y; Code_JEDEC: TO-99; ComponentLink1Description: Manufacturer URL; ComponentLink1URL: http://www.national.com/; ComponentLink2Description: LM4562 Datasheet; ComponentLink2URL: http://www.national.com/ds/LM/LM4562.pdf; ComponentLink3Description: LM4562 Web Page; ComponentLink3URL: http://www.national.com/pf/LM/LM4562.html; ComponentLink4Description: H08C Package Page; ComponentLink4URL: http://www.national.com/packaging/folders/h08c.html
footprint H08C (Can; 8 Leads; Pin Circle Dia. 5.08 mm; Lead Dia. 0.48 mm (max))
pins on every part: 4 V- (power), 8 V+ (power)
part A pins: 1 OUT A (out), 2 IN A (in), 3 IN A (in)
part B pins: 5 IN B (in), 6 IN B (in), 7 OUT B (out)

## LM4562MA
designator U?
Dual High Performance, High Fidelity Audio Operational Amplifier, 8-pin Narrow SOIC; PartNumber: LM4562MA; Manufacturer: National Semiconductor; PackageTopMarking: NSZXTT*L4562*MA; PowerWise: Y; CompType: Audio IC; DatasheetVersion: Jan-2010; PackageVersion: revM, May-2009; PackageReference: M08A; PackageDescription: SOIC Narrow, 4.9 x 3.9 x 1.45mm, 8 Lead, 1.27mm Pitch; RoHS: Y; PinCount: 8; High-Reliability: Y; Code_JEDEC: MS-012-AA; Code_IPC: SOIC127P600-8; ComponentLink1Description: Manufacturer URL; ComponentLink1URL: http://www.national.com/; ComponentLink2Description: LM4562 Datasheet; ComponentLink2URL: http://www.national.com/ds/LM/LM4562.pdf; ComponentLink3Description: LM4562 Web Page; ComponentLink3URL: http://www.national.com/pf/LM/LM4562.html; ComponentLink4Description: M08A Package Page; ComponentLink4URL: http://www.national.com/packaging/folders/m08a.html
footprint M08A_N (SOIC, 8-Leads, Body 4.9x3.9mm, Pitch 1.27mm, IPC Medium Density)
footprint M08A_L (SOIC, 8-Leads, Body 4.9x3.9mm, Pitch 1.27mm, IPC High Density)
footprint M08A_M (SOIC, 8-Leads, Body 4.9x3.9mm, Pitch 1.27mm, IPC Low Density)
pins on every part: 4 V- (power), 8 V+ (power)
part A pins: 1 OUT A (out), 2 IN A (in), 3 IN A (in)
part B pins: 5 IN B (in), 6 IN B (in), 7 OUT B (out)

## LM4562MA/NOPB
designator U?
Dual High Performance, High Fidelity Audio Operational Amplifier, 8-pin Narrow SOIC, Pb-Free; PartNumber: LM4562MA/NOPB; Manufacturer: National Semiconductor; PackageTopMarking: NSZXTT*L4562*MA; PowerWise: Y; CompType: Audio IC; DatasheetVersion: Jan-2010; PackageVersion: revM, May-2009; PackageReference: M08A; PackageDescription: SOIC Narrow, 4.9 x 3.9 x 1.45mm, 8 Lead, 1.27mm Pitch; RoHS: Y; PinCount: 8; High-Reliability: Y; Code_JEDEC: MS-012-AA; Code_IPC: SOIC127P600-8; ComponentLink1Description: Manufacturer URL; ComponentLink1URL: http://www.national.com/; ComponentLink2Description: LM4562 Datasheet; ComponentLink2URL: http://www.national.com/ds/LM/LM4562.pdf; ComponentLink3Description: LM4562 Web Page; ComponentLink3URL: http://www.national.com/pf/LM/LM4562.html; ComponentLink4Description: M08A Package Page; ComponentLink4URL: http://www.national.com/packaging/folders/m08a.html
footprint M08A_N (SOIC, 8-Leads, Body 4.9x3.9mm, Pitch 1.27mm, IPC Medium Density)
footprint M08A_L (SOIC, 8-Leads, Body 4.9x3.9mm, Pitch 1.27mm, IPC High Density)
footprint M08A_M (SOIC, 8-Leads, Body 4.9x3.9mm, Pitch 1.27mm, IPC Low Density)
pins on every part: 4 V- (power), 8 V+ (power)
part A pins: 1 OUT A (out), 2 IN A (in), 3 IN A (in)
part B pins: 5 IN B (in), 6 IN B (in), 7 OUT B (out)

## LM4562MAX/NOPB
designator U?
Dual High Performance, High Fidelity Audio Operational Amplifier, 8-pin Narrow SOIC, Pb-Free; PartNumber: LM4562MAX/NOPB; Manufacturer: National Semiconductor; PackageTopMarking: NSZXTT*L4562*MA; PowerWise: Y; CompType: Audio IC; DatasheetVersion: Jan-2010; PackageVersion: revM, May-2009; PackageReference: M08A; PackageDescription: SOIC Narrow, 4.9 x 3.9 x 1.45mm, 8 Lead, 1.27mm Pitch; RoHS: Y; PinCount: 8; High-Reliability: Y; Code_JEDEC: MS-012-AA; Code_IPC: SOIC127P600-8; ComponentLink1Description: Manufacturer URL; ComponentLink1URL: http://www.national.com/; ComponentLink2Description: LM4562 Datasheet; ComponentLink2URL: http://www.national.com/ds/LM/LM4562.pdf; ComponentLink3Description: LM4562 Web Page; ComponentLink3URL: http://www.national.com/pf/LM/LM4562.html; ComponentLink4Description: M08A Package Page; ComponentLink4URL: http://www.national.com/packaging/folders/m08a.html
footprint M08A_N (SOIC, 8-Leads, Body 4.9x3.9mm, Pitch 1.27mm, IPC Medium Density)
footprint M08A_L (SOIC, 8-Leads, Body 4.9x3.9mm, Pitch 1.27mm, IPC High Density)
footprint M08A_M (SOIC, 8-Leads, Body 4.9x3.9mm, Pitch 1.27mm, IPC Low Density)
pins on every part: 4 V- (power), 8 V+ (power)
part A pins: 1 OUT A (out), 2 IN A (in), 3 IN A (in)
part B pins: 5 IN B (in), 6 IN B (in), 7 OUT B (out)

## LM4562NA
designator U?
Dual High Performance, High Fidelity Audio Operational Amplifier, 8-pin MDIP; PartNumber: LM4562NA; Manufacturer: National Semiconductor; PackageTopMarking: NSUZXYTT*LM*4562NA; PowerWise: Y; CompType: Audio IC; DatasheetVersion: Jan-2010; PackageVersion: revG, May-2006; PackageReference: N08E; PackageDescription: MDIP, .365 x .250 x .130in, 8 Lead, .100in Pitch; RoHS: Y; PinCount: 8; High-Reliability: Y; Code_JEDEC: MS-001-BA; ComponentLink1Description: Manufacturer URL; ComponentLink1URL: http://www.national.com/; ComponentLink2Description: LM4562 Datasheet; ComponentLink2URL: http://www.national.com/ds/LM/LM4562.pdf; ComponentLink3Description: LM4562 Web Page; ComponentLink3URL: http://www.national.com/pf/LM/LM4562.html; ComponentLink4Description: N08E Package Page; ComponentLink4URL: http://www.national.com/packaging/folders/n08e.html
footprint N08E (DIP, 8-Leads, Row Spacing 7.62mm, Pitch 2.54mm, Body 9.91x6.35mm)
pins on every part: 4 V- (power), 8 V+ (power)
part A pins: 1 OUT A (out), 2 IN A (in), 3 IN A (in)
part B pins: 5 IN B (in), 6 IN B (in), 7 OUT B (out)

## LM4562NA/NOPB
designator U?
Dual High Performance, High Fidelity Audio Operational Amplifier, 8-pin MDIP, Pb-Free; PartNumber: LM4562NA/NOPB; Manufacturer: National Semiconductor; PackageTopMarking: NSUZXYTTE#*LM*4562NA; PowerWise: Y; CompType: Audio IC; DatasheetVersion: Jan-2010; PackageVersion: revG, May-2006; PackageReference: N08E; PackageDescription: MDIP, .365 x .250 x .130in, 8 Lead, .100in Pitch; RoHS: Y; PinCount: 8; High-Reliability: Y; Code_JEDEC: MS-001-BA; ComponentLink1Description: Manufacturer URL; ComponentLink1URL: http://www.national.com/; ComponentLink2Description: LM4562 Datasheet; ComponentLink2URL: http://www.national.com/ds/LM/LM4562.pdf; ComponentLink3Description: LM4562 Web Page; ComponentLink3URL: http://www.national.com/pf/LM/LM4562.html; ComponentLink4Description: N08E Package Page; ComponentLink4URL: http://www.national.com/packaging/folders/n08e.html
footprint N08E (DIP, 8-Leads, Row Spacing 7.62mm, Pitch 2.54mm, Body 9.91x6.35mm)
pins on every part: 4 V- (power), 8 V+ (power)
part A pins: 1 OUT A (out), 2 IN A (in), 3 IN A (in)
part B pins: 5 IN B (in), 6 IN B (in), 7 OUT B (out)

## LM4665ITL
designator U?
Filterless High Efficiency 1W Switching Audio Amplifier, 9-pin Micro SMD; PartNumber: LM4665ITL; Manufacturer: National Semiconductor; PackageTopMarking: XVG*I A2; PowerWise: N; CompType: Audio IC; High-Reliability: Y; DatasheetVersion: Dec-2002; PackageVersion: revC, Jan-2004; PackageReference: TLA09AAA; PackageDescription: Thin Micro SMD, 9 Bump (Large), 0.5mm Pitch; RoHS: Y; PinCount: 9; Code_JEDEC: MO-211-DD; ComponentLink1Description: Manufacturer URL; ComponentLink1URL: http://www.national.com/; ComponentLink2Description: LM4665 Datasheet; ComponentLink2URL: http://www.national.com/ds/LM/LM4665.pdf; ComponentLink3Description: LM4665 Web Page; ComponentLink3URL: http://www.national.com/pf/LM/LM4665.html; ComponentLink4Description: TLA09AAA Package Page; ComponentLink4URL: http://www.national.com/packaging/folders/tla09aaa.html
footprint TLA09AAA (Micro SMD, 9-Leads, Body 1.52x1.52mm, Pitch 0.5mm, NSC Recommended)
pins: A1 IN+ (in), A2 GAIN SEL (in), A3 VO 1 (out), B1 VDD (power), B2 SD MODE (in), B3 GND (power), C1 IN- (in), C2 SD (in), C3 VO 2 (out)

## LM4665ITL/NOPB
designator U?
Filterless High Efficiency 1W Switching Audio Amplifier, 9-pin Micro SMD, Pb-Free; PartNumber: LM4665ITL/NOPB; Manufacturer: National Semiconductor; PackageTopMarking: XVG*I A2; PowerWise: N; CompType: Audio IC; High-Reliability: Y; DatasheetVersion: Dec-2002; PackageVersion: revC, Jan-2004; PackageReference: TLA09AAA; PackageDescription: Thin Micro SMD, 9 Bump (Large), 0.5mm Pitch; RoHS: Y; PinCount: 9; Code_JEDEC: MO-211-DD; ComponentLink1Description: Manufacturer URL; ComponentLink1URL: http://www.national.com/; ComponentLink2Description: LM4665 Datasheet; ComponentLink2URL: http://www.national.com/ds/LM/LM4665.pdf; ComponentLink3Description: LM4665 Web Page; ComponentLink3URL: http://www.national.com/pf/LM/LM4665.html; ComponentLink4Description: TLA09AAA Package Page; ComponentLink4URL: http://www.national.com/packaging/folders/tla09aaa.html
footprint TLA09AAA (Micro SMD, 9-Leads, Body 1.52x1.52mm, Pitch 0.5mm, NSC Recommended)
pins: A1 IN+ (in), A2 GAIN SEL (in), A3 VO 1 (out), B1 VDD (power), B2 SD MODE (in), B3 GND (power), C1 IN- (in), C2 SD (in), C3 VO 2 (out)

## LM4666SD
designator U?
Filterless High Efficiency Stereo 1.2W Switching Audio Amplifier, 15-pin LLP; PartNumber: LM4666SD; Manufacturer: National Semiconductor; PackageTopMarking: ZXYTTE#*L4666; PowerWise: N; CompType: Audio IC; High-Reliability: Y; DatasheetVersion: May-2004; PackageVersion: revA, Jun-2003; PackageReference: SDA14A; PackageDescription: LLP, Plastic, Dual, 4 x 3 x 0.8mm Body, 14 Lead, 0.5mm Pitch, No Pullback; RoHS: N; PinCount: 14; ComponentLink1Description: Manufacturer URL; ComponentLink1URL: http://www.national.com/; ComponentLink2Description: LM4666 Datasheet; ComponentLink2URL: http://www.national.com/ds/LM/LM4666.pdf; ComponentLink3Description: LM4666 Web Page; ComponentLink3URL: http://www.national.com/pf/LM/LM4666.html; ComponentLink4Description: SDA14A Package Page; ComponentLink4URL: http://www.national.com/packaging/folders/sda14a.html
footprint SDA14A (SON, 14-Leads, Body 4x3mm, Pitch 0.5mm, NSC Recommended)
pins: 1 VINR- (in), 2 VINR+ (in), 3 GAIN SEL (in), 4 LOUT1 (out), 5 GND (power), 6 VDD (power), 7 LOUT2 (out), 8 VINL- (in), 9 VINL+ (in), 10 ~{SD} (in), 11 ROUT1 (out), 12 GND (power), 13 VDD (power), 14 ROUT2 (out), 15 DAP (power)

## LM4666SD/NOPB
designator U?
Filterless High Efficiency Stereo 1.2W Switching Audio Amplifier, 14-pin LLP, Pb-Free; PartNumber: LM4666SD/NOPB; Manufacturer: National Semiconductor; PackageTopMarking: ZXYTTE#*L4666; PowerWise: N; CompType: Audio IC; High-Reliability: Y; DatasheetVersion: May-2004; PackageVersion: revA, Jun-2003; PackageReference: SDA14A; PackageDescription: LLP, Plastic, Dual, 4 x 3 x 0.8mm Body, 14 Lead, 0.5mm Pitch, No Pullback; RoHS: Y; PinCount: 14; ComponentLink1Description: Manufacturer URL; ComponentLink1URL: http://www.national.com/; ComponentLink2Description: LM4666 Datasheet; ComponentLink2URL: http://www.national.com/ds/LM/LM4666.pdf; ComponentLink3Description: LM4666 Web Page; ComponentLink3URL: http://www.national.com/pf/LM/LM4666.html; ComponentLink4Description: SDA14A Package Page; ComponentLink4URL: http://www.national.com/packaging/folders/sda14a.html
footprint SDA14A (SON, 14-Leads, Body 4x3mm, Pitch 0.5mm, NSC Recommended)
pins: 1 VINR- (in), 2 VINR+ (in), 3 GAIN SEL (in), 4 LOUT1 (out), 5 GND (power), 6 VDD (power), 7 LOUT2 (out), 8 VINL- (in), 9 VINL+ (in), 10 ~{SD} (in), 11 ROUT1 (out), 12 GND (power), 13 VDD (power), 14 ROUT2 (out), 15 DAP (power)

## LM4666SDX
designator U?
Filterless High Efficiency Stereo 1.2W Switching Audio Amplifier, 14-pin LLP; PartNumber: LM4666SDX; Manufacturer: National Semiconductor; PackageTopMarking: ZXYTTE#*L4666; PowerWise: N; CompType: Audio IC; High-Reliability: Y; DatasheetVersion: May-2004; PackageVersion: revA, Jun-2003; PackageReference: SDA14A; PackageDescription: LLP, Plastic, Dual, 4 x 3 x 0.8mm Body, 14 Lead, 0.5mm Pitch, No Pullback; RoHS: N; PinCount: 14; ComponentLink1Description: Manufacturer URL; ComponentLink1URL: http://www.national.com/; ComponentLink2Description: LM4666 Datasheet; ComponentLink2URL: http://www.national.com/ds/LM/LM4666.pdf; ComponentLink3Description: LM4666 Web Page; ComponentLink3URL: http://www.national.com/pf/LM/LM4666.html; ComponentLink4Description: SDA14A Package Page; ComponentLink4URL: http://www.national.com/packaging/folders/sda14a.html
footprint SDA14A (SON, 14-Leads, Body 4x3mm, Pitch 0.5mm, NSC Recommended)
pins: 1 VINR- (in), 2 VINR+ (in), 3 GAIN SEL (in), 4 LOUT1 (out), 5 GND (power), 6 VDD (power), 7 LOUT2 (out), 8 VINL- (in), 9 VINL+ (in), 10 ~{SD} (in), 11 ROUT1 (out), 12 GND (power), 13 VDD (power), 14 ROUT2 (out), 15 DAP (power)

## LM4667ITL
designator U?
Filterless High Efficiency 1.3W Switching Audio Amplifier, 9-pin Micro SMD; PartNumber: LM4667ITL; Manufacturer: National Semiconductor; PackageTopMarking: XVG*I B4; PowerWise: N; CompType: Audio IC; High-Reliability: Y; DatasheetVersion: Sep-2004; PackageVersion: revC, Jan-2004; PackageReference: TLA09AAA; PackageDescription: Thin Micro SMD, 9 Bump (Large), 0.5mm Pitch; RoHS: N; PinCount: 9; Code_JEDEC: MO-211-DD; ComponentLink1Description: Manufacturer URL; ComponentLink1URL: http://www.national.com/; ComponentLink2Description: LM4667 Datasheet; ComponentLink2URL: http://www.national.com/ds/LM/LM4667.pdf; ComponentLink3Description: LM4667 Web Page; ComponentLink3URL: http://www.national.com/pf/LM/LM4667.html; ComponentLink4Description: TLA09AAA Package Page; ComponentLink4URL: http://www.national.com/packaging/folders/tla09aaa.html
footprint TLA09AAA (Micro SMD, 9-Leads, Body 1.52x1.52mm, Pitch 0.5mm, NSC Recommended)
pins: A1 IN+ (in), A2 GAIN SEL (in), A3 VO 1 (out), B1 VDD (power), B2 VDD (power), B3 GND (power), C1 IN- (in), C2 ~{SD} (in), C3 VO 2 (out)